# Altium schematic symbol library Current_Sense_Amplifiers.SchLib: 1 symbol
Pins are listed as number, name and electrical type; pins without a type are passive.

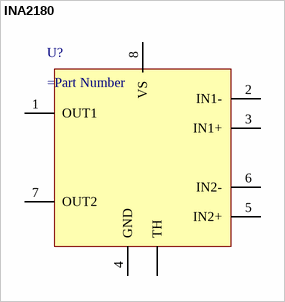
[diagram p0: symbol INA2180]

## INA2180
designator U?
pins: 1 OUT1, 2 IN1-, 3 IN1+, 4 GND, 5 IN2+, 6 IN2-, 7 OUT2, 8 VS, TH